# Altium footprint library 53261-0471.PcbLib: 3 footprints
Each footprint in its own frame and in the unit in brackets; x right, y up, seen from the top. Pads: shape width x height; smd on the part's side, far side on the other; paste and mask are expansions set on the pad; w line width, h text height; cw(c..) or ccw(c..) is an arc to the next point about the centre after c.
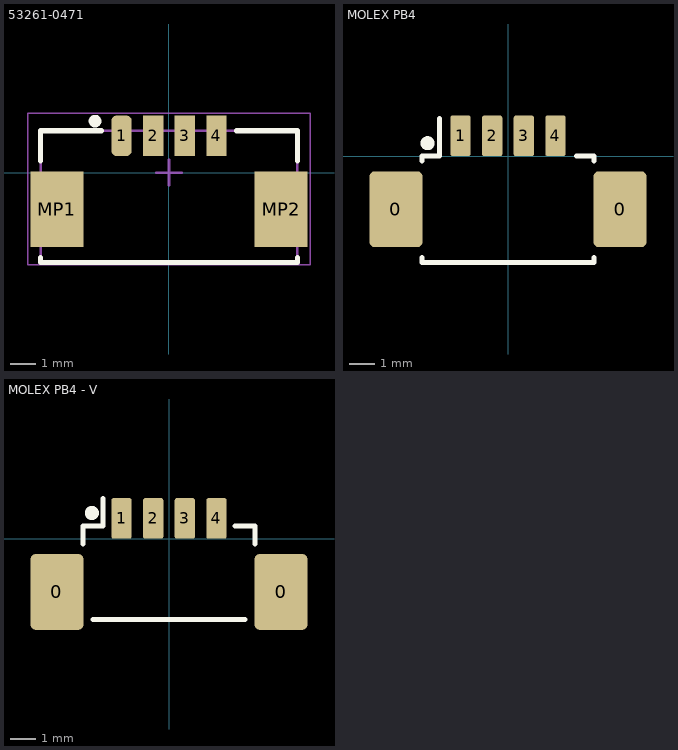
[diagram p0: the footprints below, top view; thin cyan lines are the x and y axes]

## 53261-0471 [mm]
pads (6):
  rrect50% 0.8x1.6 smd: 1(-1.875,1.45)
  rect 0.8x1.6 smd: 2(-0.625,1.45) 3(0.625,1.45) 4(1.875,1.45)
  rect 2.1x3 smd: MP1(-4.425,-1.45) MP2(4.425,-1.45)
Top Overlay:
  circle w0.25: c-2.921,2.032 r0.125
  lines w0.2: -5.075,-3.35 -5.075,-3.55 5.075,-3.55 5.075,-3.35 ; -5.075,0.45 -5.075,1.65 -2.675,1.65 ; 2.675,1.65 5.075,1.65 5.075,0.45
Mechanical 13:
  lines w0.1: -5.075,-3.55 -5.075,1.65 5.075,1.65 5.075,-3.55 -5.075,-3.55
Mechanical 15:
  lines w0.05: -5.575,-3.65 -5.575,2.35 5.575,2.35 5.575,-3.65 -5.575,-3.65
  lines w0.1: -0.5,0 0.5,0 ; 0,-0.5 0,0.5
3D body "532610471.stp": height 3.4, standoff 0, extent -5.075,-3.55 5.075,1.65

## MOLEX PB4 [mm]
height 11
pads (6):
  rrect20% 2.1x3 smd: 0(-4.425,-2.1) 0(4.425,-2.1)
  rrect20% 0.8x1.6 smd: 1(-1.875,0.8) 2(-0.625,0.8) 3(0.625,0.8) 4(1.875,0.8)
Top Overlay:
  circle w0.3: c-3.175,0.508 r0.127
  lines w0.2: -3.4,-4 -3.4,-4.2 3.4,-4.2 3.4,-4 ; -3.4,-0.2 -3.4,0 -2.7,0 -2.7,1.491 ; 2.7,0 3.4,0 3.4,-0.2
3D body "molex pb4 532610471.stp": height 3.4, standoff 0, extent -5.075,-4.175 5.075,1.025

## MOLEX PB4 - V [mm]
pads (6):
  rrect20% 2.1x3 smd: 0(-4.425,-2.1) 0(4.425,-2.1)
  rrect20% 0.8x1.6 smd: 1(-1.875,0.8) 2(-0.625,0.8) 3(0.625,0.8) 4(1.875,0.8)
Top Overlay:
  circle w0.3: c-3.048,1.016 r0.127
  lines w0.2: -3.4,-0.2 -3.4,0.5 -2.6,0.5 -2.6,1.591 ; -3,-3.2 3,-3.2 ; 2.6,0.5 3.4,0.5 ; 3.4,-0.2 3.4,0.5 ; 3.4,0.5 3.4,0.5
3D body "User Library-molex 53398-04.step": height 4.7, standoff 0, extent -5.075,-3.2 5.075,1